# EAGLE library part LT6551 (library Traficon)
Quad 3.3V video amplifier RS online: 506-1280
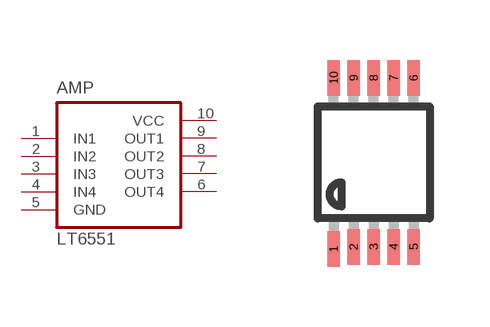
[diagram p107: symbol with the pads of MSOP10; footprint MSOP10]

Designator prefix AMP

## LT6551CMS  [MSOP10]
1  IN1
2  IN2
3  IN3
4  IN4
5  GND
6  OUT4
7  OUT3
8  OUT2
9  OUT1
10  VCC

## Footprint MSOP10 (pad centres in mm)
10-Lead Mini Small Outline Package [MSOP] (RM-10) Source: http://www.analog.com/UploadedFiles/Data_Sheets/35641221898805SSM2167_b.pdf COMPLIANT TO JEDEC STANDARDS MO-187BA
smd 0.305 x 0.889: 1 -1.001,-2.169; 2 -0.5,-2.113; 3 0,-2.113; 4 0.5,-2.113; 5 1,-2.113; 6 1,2.113; 7 0.5,2.113; 8 0,2.113; 9 -0.5,2.113; 10 -1,2.113